# EAGLE library part PLCC20T-DC (library STEMTera)
AMKOR PLCC20T-DC
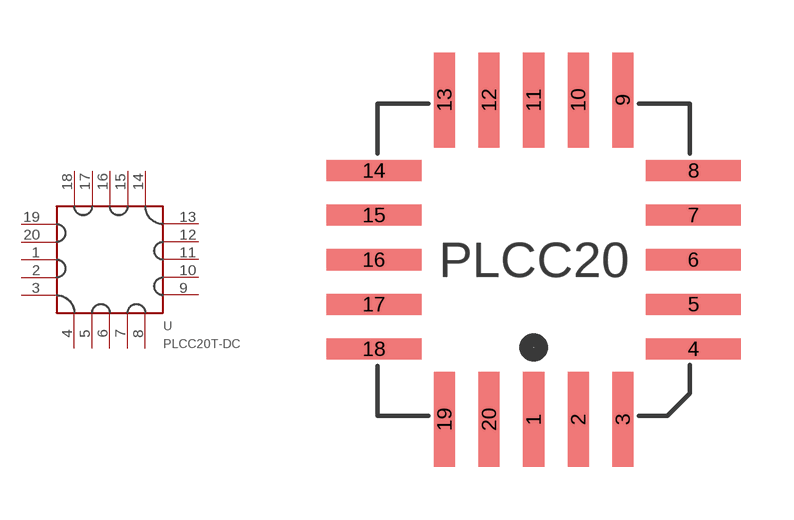
[diagram p7: symbol with the pads of PLCC20; footprint PLCC20]

Designator prefix -

## PLCC20T-DC  [PLCC20]
1  1
2  2
3  3
4  4
5  5
6  6
7  7
8  8
9  9
10  10
11  11
12  12
13  13
14  14
15  15
16  16
17  17
18  18
19  19
20  20

## Footprint PLCC20 (pad centres in mm)
PLCC20 8.8mm Body
smd 0.6 x 2.7: 1 0,-0.25; 2 1.27,-0.25; 3 2.54,-0.25; 9 2.54,8.85; 10 1.27,8.85; 11 0,8.85; 12 -1.27,8.85; 13 -2.54,8.85; 19 -2.54,-0.25; 20 -1.27,-0.25
smd 2.7 x 0.6: 4 4.55,1.76; 5 4.55,3.03; 6 4.55,4.3; 7 4.55,5.57; 8 4.55,6.84; 14 -4.55,6.84; 15 -4.55,5.57; 16 -4.55,4.3; 17 -4.55,3.03; 18 -4.55,1.76